# Altium schematic symbol library Relay.SchLib: 6 symbols
Pins are listed as number, name and electrical type; pins without a type are passive.

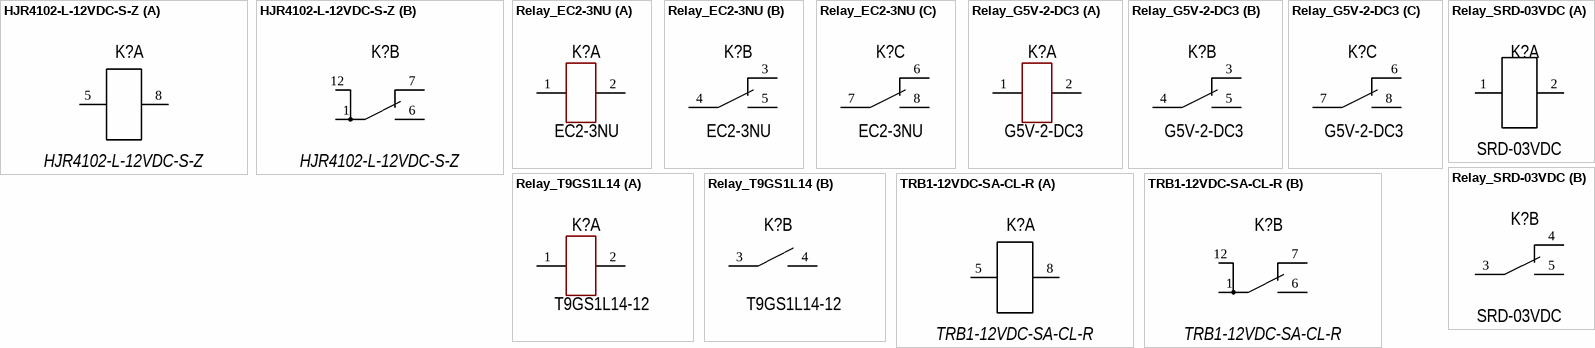
[diagram p0: symbols HJR4102-L-12VDC-S-Z to TRB1-12VDC-SA-CL-R]

## HJR4102-L-12VDC-S-Z
designator K?  PartNumber: HJR4102-L-12VDC-S-Z
Manufacturer: TIANBO; ValueManufacturerPartNumber: Electromechanics relay, 12VDC, 250VAC, 1A, 1C, -25...+55°C (TIANBO HJR4102-L-12VDC-S-Z); TypeRelay: Electromechanics relay; VoltageMax: 250VAC; VoltageControlCoil: 12VDC; MaxCurrent: 1A; Package: 1C; HelpURL: https://www.tianbo-relay.com/upload/2019062414532076.pdf; Temperature: -25...+55°C
footprint HJR4102-L-12VDC-S-Z (Subminiature relay)
part A pins: 5 COIL, 8 COIL
part B pins: 1 COM, 6 N.O., 7 N.C., 12 COM

## Relay_EC2-3NU
designator K?  PartNumber: EC2-3NU
Manufacturer: KEMET; ValueManufacturerPartNumber: Electromechanics relay, 3VDC, 250VAC, 2A, 2NO+2NC, -40...+85°C; TypeRelay: Electromechanics relay; VoltageMax: 250VAC; VoltageControlCoil: 3VDC; MaxCurrent: 2A; Package: 2NO+2NC; HelpURL: https://www.digikey.com/products/en?keywords=EC2-3NU; Temperature: -40...+85°C
footprint REL: EC2-3NU
part A pins: 1, 2
part B pins: 3, 4, 5
part C pins: 6, 7, 8

## Relay_G5V-2-DC3
designator K?  PartNumber: G5V-2-DC3
Manufacturer: Omron; ValueManufacturerPartNumber: Electromechanics relay, 3VDC, 125VAC, 2A, 2NO+2NC, -40...+85°C; TypeRelay: Electromechanics relay; VoltageMax: 125VAC; VoltageControlCoil: 3VDC; MaxCurrent: 2A; Package: 2NO+2NC; HelpURL: https://www.digikey.com/product-detail/en/omron-electronics-inc-emc-div/G5V-2-DC3/Z2185-ND/369042; Temperature: -40...+85°C
footprint REL: OMRON_G5V (Omron G5V relay)
part A pins: 1, 2
part B pins: 3, 4, 5
part C pins: 6, 7, 8

## Relay_SRD-03VDC
designator K?  PartNumber: SRD-03VDC
Manufacturer: Ningbo Songle; ValueManufacturerPartNumber: Electromechanics relay, 3VDC, 250VAC, 10A, 1NO, -40...+85°C; TypeRelay: Electromechanics relay; VoltageMax: 250VAC; VoltageControlCoil: 3VDC; MaxCurrent: 10A; Package: 1NO; HelpURL: https://lcsc.com/product-detail/Relays_SRD-03VDC-SL-C_C24585.html; Temperature: -40...+85°C
footprint REL: SRD-03VDC
part A pins: 1, 2
part B pins: 3, 4, 5

## Relay_T9GS1L14
designator K?  PartNumber: T9GS1L14-12
Manufacturer: TE Connectivity; ValueManufacturerPartNumber: Electromechanics relay, 12VDC, 480VAC, 30A, 1NO, -40...+85°C; TypeRelay: Electromechanics relay; VoltageMax: 480VAC; VoltageControlCoil: 12VDC; MaxCurrent: 30A; Package: 1NO; HelpURL: https://www.digikey.com/products/en?keywords=T9GS1L14-12; Temperature: -40...+85°C
footprint REL: T9GS1
part A pins: 1, 2
part B pins: 3, 4

## TRB1-12VDC-SA-CL-R
designator K?  PartNumber: TRB1-12VDC-SA-CL-R
Manufacturer: Tai-Shing Electronic Components; ValueManufacturerPartNumber: Electromechanics relay, 12VDC, 250VAC, 3A, 1C, -30...+85°C (Tai-Shing Electronic Components TRB1-12VDC-SA-CL-R); TypeRelay: Electromechanics relay; VoltageMax: 250VAC; VoltageControlCoil: 12VDC; MaxCurrent: 3A; Package: 1C; HelpURL: https://tai-shing-pic10.eznetonline.com/upload/3wbx.pdf; Temperature: -30...+85°C
footprint TRB-12VDC-SA-CL-R (Subminiature relay)
part A pins: 5 COIL, 8 COIL
part B pins: 1 COM, 6 N.O., 7 N.C., 12 COM